# EAGLE library part ICM7242 (library space-concordia-power)
ICM7242 - Long Range Fixed Timer TC7WZ74 - 2V to 16V VCC SOIC8 Package Intersil CMOS RC-network configured timer/counter
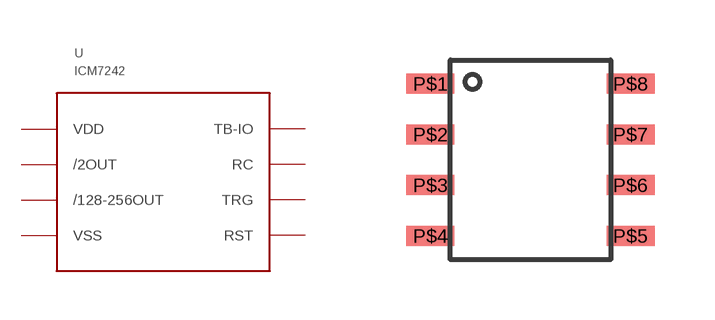
[diagram p13: symbol with the pads of SOIC8; footprint SOIC8]

Designator prefix -

## ICM7242  [SOIC8]
P$1  VDD
P$2  /2OUT
P$3  /128-256OUT
P$4  VSS
P$5  RST
P$6  TRG
P$7  RC
P$8  TB-IO

## Footprint SOIC8 (pad centres in mm)
SOIC8 Package SOIC-8; based on Intersil LAND pattern 4.0mm W x 5.0mm L Pins: 8 x 1.2mm x 0.5mm
smd 1.2 x 0.5: P$1 -2.5,1.905; P$2 -2.5,0.635; P$3 -2.5,-0.635; P$4 -2.5,-1.905; P$5 2.5,-1.905; P$6 2.5,-0.635; P$7 2.5,0.635; P$8 2.5,1.905